# Altium schematic symbol library USB.SchLib: 2 symbols
Pins are listed as number, name and electrical type; pins without a type are passive.

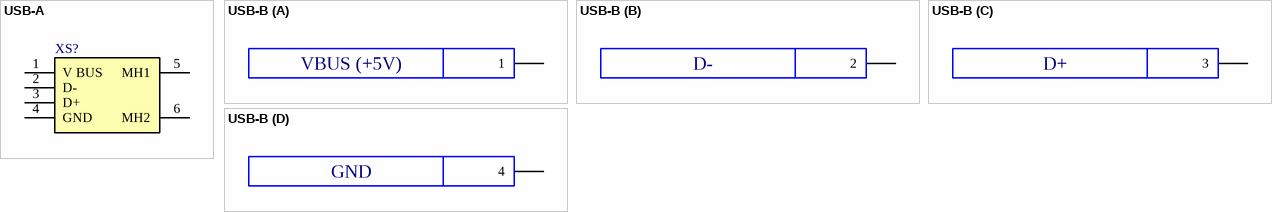
[diagram p0: symbols USB-A to USB-B]

## USB-A
designator XS?
USB-A Board Connector
pins: 1 V BUS "USB Vcc [Red]", 2 D- "USB Data - [White]", 3 D+ "USB Data + [Green]", 4 GND "Ground [Black]", 5 MH1 "Shell", 6 MH2 "Shell"

## USB-B
designator X?
USB B Female
part A pins: 1
part B pins: 2
part C pins: 3
part D pins: 4
1 alternate drawing of the same symbol
part A text: VBUS (+5V)
part B text: D-
part C text: D+
part D text: GND